# Altium integrated library NSC LDO.IntLib: 2590 symbols (part 59 of 64)
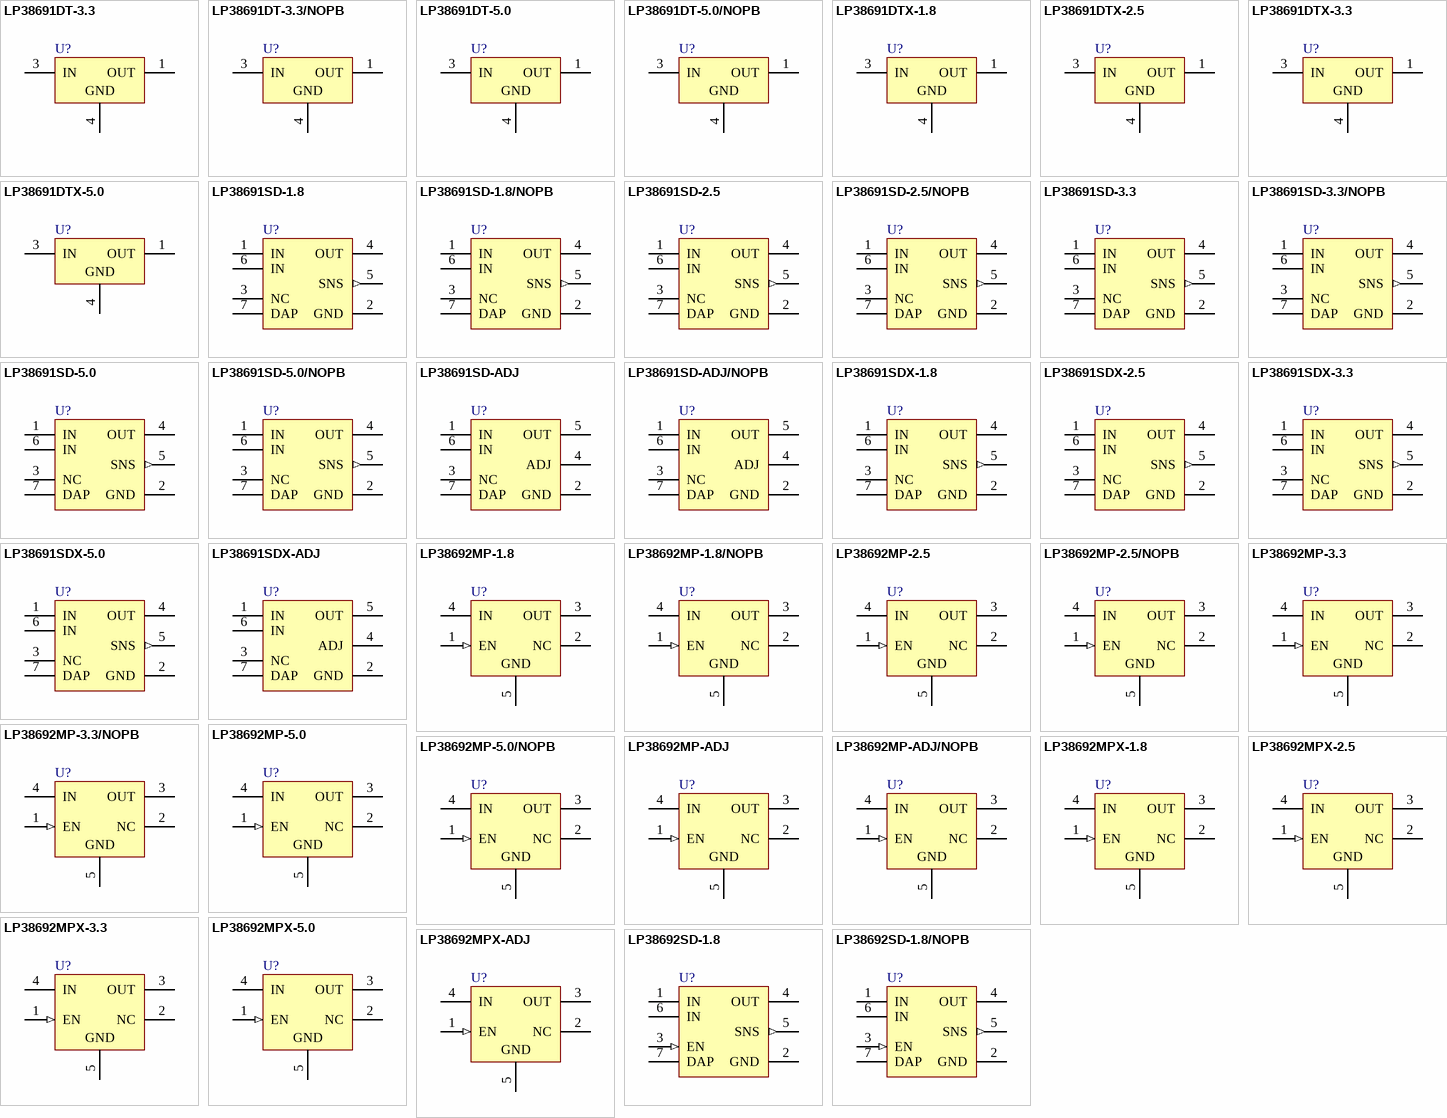
[diagram p123: symbols LP38691DT-3.3 to LP38692SD-1.8/NOPB]

## LP38691DT-5.0
designator U?
500mA Low Dropout CMOS Linear Regulators, 3-pin TO-252; PartNumber: LP38691DT-5.0; Manufacturer: National Semiconductor; PackageTopMarking: NSUZXYTT*LP38691*DT-5.0; PowerWise: Y; CompType: LDO IC; Published: 4-Dec-2008; DatasheetVersion: Sep-2005; PackageVersion: revD, Feb-2009; PackageReference: TD03B; Publisher: Altium Limited; PackageDescription: TO252, Molded, Jedec, 6.8 x 6.10 x 2.30mm Body, 3 Lead, 2.28mm Pitch, Surface Mount; Supplier 1: Farnell; Supplier Part Number 1: 1008052; RoHS: N; PinCount: 3; Code_JEDEC: TO-252-AA; ComponentLink1Description: LP38691 Datasheet; ComponentLink1URL: http://www.national.com/ds/LP/LP38691.pdf; ComponentLink2Description: LP38691 Web Page; ComponentLink2URL: http://www.national.com/pf/LP/LP38691.html; ComponentLink3Description: TD03B Package Page; ComponentLink3URL: http://www.national.com/packaging/folders/td03b.html
footprint TD03B_N (D-PAK, 4-Leads, Body 6.1x6.6mm, Pitch 2.29mm, Lead Span 9.7mm, IPC Medium Density)
footprint TD03B_L (D-PAK, 4-Leads, Body 6.1x6.6mm, Pitch 2.29mm, Lead Span 9.7mm, IPC High Density)
footprint TD03B_M (D-PAK, 4-Leads, Body 6.1x6.6mm, Pitch 2.29mm, Lead Span 9.7mm, IPC Low Density)
pins: 1 OUT (power), 3 IN (power), 4 GND (power)

## LP38691DT-5.0/NOPB
designator U?
500mA Low Dropout CMOS Linear Regulators Stable with Ceramic Output Capacitors, 3-pin TO-252, Pb-Free; PartNumber: LP38691DT-5.0/NOPB; Manufacturer: National Semiconductor; PackageTopMarking: NSUZXYTT*LP38691*DT-5.0; PowerWise: Y; CompType: LDO IC; Published: 1-Mar-2010; DatasheetVersion: Sep-2005; PackageVersion: revD, Feb-2009; PackageReference: TD03B; Publisher: Altium Limited; PackageDescription: TO252, Molded, Jedec, 6.8 x 6.10 x 2.30mm Body, 3 Lead, 2.28mm Pitch, Surface Mount; Supplier 1: Digi-Key; Supplier Part Number 1: LP38691DT-5.0-ND; Supplier 2: Farnell; Supplier Part Number 2: 1559635; RoHS: Y; PinCount: 3; Code_JEDEC: TO-252-AA; ComponentLink1Description: LP38691 Datasheet; ComponentLink1URL: http://www.national.com/ds/LP/LP38691.pdf; ComponentLink2Description: LP38691 Web Page; ComponentLink2URL: http://www.national.com/pf/LP/LP38691.html; ComponentLink3Description: TD03B Package Page; ComponentLink3URL: http://www.national.com/packaging/folders/td03b.html
footprint TD03B_N (D-PAK, 4-Leads, Body 6.1x6.6mm, Pitch 2.29mm, Lead Span 9.7mm, IPC Medium Density)
footprint TD03B_L (D-PAK, 4-Leads, Body 6.1x6.6mm, Pitch 2.29mm, Lead Span 9.7mm, IPC High Density)
footprint TD03B_M (D-PAK, 4-Leads, Body 6.1x6.6mm, Pitch 2.29mm, Lead Span 9.7mm, IPC Low Density)
pins: 1 OUT (power), 3 IN (power), 4 GND (power)

## LP38691DTX-1.8
designator U?
500mA Low Dropout CMOS Linear Regulators Stable with Ceramic Output Capacitors, 3-pin TO-252; PartNumber: LP38691DTX-1.8; Manufacturer: National Semiconductor; PackageTopMarking: NSUZXYTT*LP38691*DT-1.8; PowerWise: Y; CompType: LDO IC; Published: 1-Mar-2010; DatasheetVersion: Sep-2005; PackageVersion: revD, Feb-2009; PackageReference: TD03B; Publisher: Altium Limited; PackageDescription: TO252, Molded, Jedec, 6.8 x 6.10 x 2.30mm Body, 3 Lead, 2.28mm Pitch, Surface Mount; RoHS: N; PinCount: 3; Code_JEDEC: TO-252-AA; ComponentLink1Description: LP38691 Datasheet; ComponentLink1URL: http://www.national.com/ds/LP/LP38691.pdf; ComponentLink2Description: LP38691 Web Page; ComponentLink2URL: http://www.national.com/pf/LP/LP38691.html; ComponentLink3Description: TD03B Package Page; ComponentLink3URL: http://www.national.com/packaging/folders/td03b.html
footprint TD03B_N (D-PAK, 4-Leads, Body 6.1x6.6mm, Pitch 2.29mm, Lead Span 9.7mm, IPC Medium Density)
footprint TD03B_L (D-PAK, 4-Leads, Body 6.1x6.6mm, Pitch 2.29mm, Lead Span 9.7mm, IPC High Density)
footprint TD03B_M (D-PAK, 4-Leads, Body 6.1x6.6mm, Pitch 2.29mm, Lead Span 9.7mm, IPC Low Density)
pins: 1 OUT (power), 3 IN (power), 4 GND (power)

## LP38691DTX-2.5
designator U?
500mA Low Dropout CMOS Linear Regulators Stable with Ceramic Output Capacitors, 3-pin TO-252; PartNumber: LP38691DTX-2.5; Manufacturer: National Semiconductor; PackageTopMarking: NSUZXYTT*LP38691*DT-2.5; PowerWise: Y; CompType: LDO IC; Published: 1-Mar-2010; DatasheetVersion: Sep-2005; PackageVersion: revD, Feb-2009; PackageReference: TD03B; Publisher: Altium Limited; PackageDescription: TO252, Molded, Jedec, 6.8 x 6.10 x 2.30mm Body, 3 Lead, 2.28mm Pitch, Surface Mount; RoHS: N; PinCount: 3; Code_JEDEC: TO-252-AA; ComponentLink1Description: LP38691 Datasheet; ComponentLink1URL: http://www.national.com/ds/LP/LP38691.pdf; ComponentLink2Description: LP38691 Web Page; ComponentLink2URL: http://www.national.com/pf/LP/LP38691.html; ComponentLink3Description: TD03B Package Page; ComponentLink3URL: http://www.national.com/packaging/folders/td03b.html
footprint TD03B_N (D-PAK, 4-Leads, Body 6.1x6.6mm, Pitch 2.29mm, Lead Span 9.7mm, IPC Medium Density)
footprint TD03B_L (D-PAK, 4-Leads, Body 6.1x6.6mm, Pitch 2.29mm, Lead Span 9.7mm, IPC High Density)
footprint TD03B_M (D-PAK, 4-Leads, Body 6.1x6.6mm, Pitch 2.29mm, Lead Span 9.7mm, IPC Low Density)
pins: 1 OUT (power), 3 IN (power), 4 GND (power)

## LP38691DTX-3.3
designator U?
500mA Low Dropout CMOS Linear Regulators Stable with Ceramic Output Capacitors, 3-pin TO-252; PartNumber: LP38691DTX-3.3; Manufacturer: National Semiconductor; PackageTopMarking: NSUZXYTT*LP38691*DT-3.3; PowerWise: Y; CompType: LDO IC; Published: 1-Mar-2010; DatasheetVersion: Sep-2005; PackageVersion: revD, Feb-2009; PackageReference: TD03B; Publisher: Altium Limited; PackageDescription: TO252, Molded, Jedec, 6.8 x 6.10 x 2.30mm Body, 3 Lead, 2.28mm Pitch, Surface Mount; RoHS: N; PinCount: 3; Code_JEDEC: TO-252-AA; ComponentLink1Description: LP38691 Datasheet; ComponentLink1URL: http://www.national.com/ds/LP/LP38691.pdf; ComponentLink2Description: LP38691 Web Page; ComponentLink2URL: http://www.national.com/pf/LP/LP38691.html; ComponentLink3Description: TD03B Package Page; ComponentLink3URL: http://www.national.com/packaging/folders/td03b.html
footprint TD03B_N (D-PAK, 4-Leads, Body 6.1x6.6mm, Pitch 2.29mm, Lead Span 9.7mm, IPC Medium Density)
footprint TD03B_L (D-PAK, 4-Leads, Body 6.1x6.6mm, Pitch 2.29mm, Lead Span 9.7mm, IPC High Density)
footprint TD03B_M (D-PAK, 4-Leads, Body 6.1x6.6mm, Pitch 2.29mm, Lead Span 9.7mm, IPC Low Density)
pins: 1 OUT (power), 3 IN (power), 4 GND (power)

## LP38691DTX-5.0
designator U?
500mA Low Dropout CMOS Linear Regulators Stable with Ceramic Output Capacitors, 3-pin TO-252; PartNumber: LP38691DTX-5.0; Manufacturer: National Semiconductor; PackageTopMarking: NSUZXYTT*LP38691*DT-5.0; PowerWise: Y; CompType: LDO IC; Published: 1-Mar-2010; DatasheetVersion: Sep-2005; PackageVersion: revD, Feb-2009; PackageReference: TD03B; Publisher: Altium Limited; PackageDescription: TO252, Molded, Jedec, 6.8 x 6.10 x 2.30mm Body, 3 Lead, 2.28mm Pitch, Surface Mount; RoHS: N; PinCount: 3; Code_JEDEC: TO-252-AA; ComponentLink1Description: LP38691 Datasheet; ComponentLink1URL: http://www.national.com/ds/LP/LP38691.pdf; ComponentLink2Description: LP38691 Web Page; ComponentLink2URL: http://www.national.com/pf/LP/LP38691.html; ComponentLink3Description: TD03B Package Page; ComponentLink3URL: http://www.national.com/packaging/folders/td03b.html
footprint TD03B_N (D-PAK, 4-Leads, Body 6.1x6.6mm, Pitch 2.29mm, Lead Span 9.7mm, IPC Medium Density)
footprint TD03B_L (D-PAK, 4-Leads, Body 6.1x6.6mm, Pitch 2.29mm, Lead Span 9.7mm, IPC High Density)
footprint TD03B_M (D-PAK, 4-Leads, Body 6.1x6.6mm, Pitch 2.29mm, Lead Span 9.7mm, IPC Low Density)
pins: 1 OUT (power), 3 IN (power), 4 GND (power)

## LP38691SD-1.8
designator U?
500mA Low Dropout CMOS Linear Regulators, 6-pin LLP; PartNumber: LP38691SD-1.8; Manufacturer: National Semiconductor; PackageTopMarking: ZXYTT*L118B; PowerWise: Y; CompType: LDO IC; Published: 4-Dec-2008; DatasheetVersion: Sep-2005; PackageVersion: revA, Jul-2003; PackageReference: SDE06A; Publisher: Altium Limited; PackageDescription: LLP, Plastic, Dual, 3 x 3 x 0.8mm Body, 6 Lead, 0.95mm Pitch, No Pullback; RoHS: N; PinCount: 6; ComponentLink1Description: LP38691 Datasheet; ComponentLink1URL: http://www.national.com/ds/LP/LP38691.pdf; ComponentLink2Description: LP38691 Web Page; ComponentLink2URL: http://www.national.com/pf/LP/LP38691.html; ComponentLink3Description: SDE06A Package Page; ComponentLink3URL: http://www.national.com/packaging/folders/sde06a.html
footprint SDE06A_full (SON, 6-Leads, Body 3x3 mm, Pitch 0.95mm, Full Paste, NSC Recommended)
footprint SDE06A_quad (SON, 6-Leads, Body 3x3 mm, Pitch 0.95mm, Quad Paste, NSC Recommended)
pins: 1 IN (power), 2 GND (power), 3 NC, 4 OUT (power), 5 SNS (out), 6 IN (power), 7 DAP (power)

## LP38691SD-1.8/NOPB
designator U?
500mA Low Dropout CMOS Linear Regulators Stable with Ceramic Output Capacitors, 6-pin LLP, Pb-Free; PartNumber: LP38691SD-1.8/NOPB; Manufacturer: National Semiconductor; PackageTopMarking: ZXYTT*L118B; PowerWise: Y; CompType: LDO IC; Published: 1-Mar-2010; DatasheetVersion: Sep-2005; PackageVersion: revA, Jul-2003; PackageReference: SDE06A; Publisher: Altium Limited; PackageDescription: LLP, Plastic, Dual, 3 x 3 x 0.8mm Body, 6 Lead, 0.95mm Pitch, No Pullback; Supplier 1: Digi-Key; Supplier Part Number 1: LP38691SD-1.8TR-ND; Supplier 2: Digi-Key; Supplier Part Number 2: LP38691SD-1.8CT-ND; Supplier 3: Digi-Key; Supplier Part Number 3: LP38691SD-1.8DKR-ND; RoHS: Y; PinCount: 6; ComponentLink1Description: LP38691 Datasheet; ComponentLink1URL: http://www.national.com/ds/LP/LP38691.pdf; ComponentLink2Description: LP38691 Web Page; ComponentLink2URL: http://www.national.com/pf/LP/LP38691.html; ComponentLink3Description: SDE06A Package Page; ComponentLink3URL: http://www.national.com/packaging/folders/sde06a.html
footprint SDE06A_full (SON, 6-Leads, Body 3x3 mm, Pitch 0.95mm, Full Paste, NSC Recommended)
footprint SDE06A_quad (SON, 6-Leads, Body 3x3 mm, Pitch 0.95mm, Quad Paste, NSC Recommended)
pins: 1 IN (power), 2 GND (power), 3 NC, 4 OUT (power), 5 SNS (out), 6 IN (power), 7 DAP (power)

## LP38691SD-2.5
designator U?
500mA Low Dropout CMOS Linear Regulators, 6-pin LLP; PartNumber: LP38691SD-2.5; Manufacturer: National Semiconductor; PackageTopMarking: ZXYTT*L119B; PowerWise: Y; CompType: LDO IC; Published: 4-Dec-2008; DatasheetVersion: Sep-2005; PackageVersion: revA, Jul-2003; PackageReference: SDE06A; Publisher: Altium Limited; PackageDescription: LLP, Plastic, Dual, 3 x 3 x 0.8mm Body, 6 Lead, 0.95mm Pitch, No Pullback; RoHS: Y; PinCount: 6; ComponentLink1Description: LP38691 Datasheet; ComponentLink1URL: http://www.national.com/ds/LP/LP38691.pdf; ComponentLink2Description: LP38691 Web Page; ComponentLink2URL: http://www.national.com/pf/LP/LP38691.html; ComponentLink3Description: SDE06A Package Page; ComponentLink3URL: http://www.national.com/packaging/folders/sde06a.html
footprint SDE06A_full (SON, 6-Leads, Body 3x3 mm, Pitch 0.95mm, Full Paste, NSC Recommended)
footprint SDE06A_quad (SON, 6-Leads, Body 3x3 mm, Pitch 0.95mm, Quad Paste, NSC Recommended)
pins: 1 IN (power), 2 GND (power), 3 NC, 4 OUT (power), 5 SNS (out), 6 IN (power), 7 DAP (power)

## LP38691SD-2.5/NOPB
designator U?
500mA Low Dropout CMOS Linear Regulators Stable with Ceramic Output Capacitors, 6-pin LLP, Pb-Free; PartNumber: LP38691SD-2.5/NOPB; Manufacturer: National Semiconductor; PackageTopMarking: ZXYTT*L119B; PowerWise: Y; CompType: LDO IC; Published: 1-Mar-2010; DatasheetVersion: Sep-2005; PackageVersion: revA, Jul-2003; PackageReference: SDE06A; Publisher: Altium Limited; PackageDescription: LLP, Plastic, Dual, 3 x 3 x 0.8mm Body, 6 Lead, 0.95mm Pitch, No Pullback; Supplier 1: Digi-Key; Supplier Part Number 1: LP38691SD-2.5TR-ND; Supplier 2: Digi-Key; Supplier Part Number 2: LP38691SD-2.5CT-ND; Supplier 3: Digi-Key; Supplier Part Number 3: LP38691SD-2.5DKR-ND; RoHS: Y; PinCount: 6; ComponentLink1Description: LP38691 Datasheet; ComponentLink1URL: http://www.national.com/ds/LP/LP38691.pdf; ComponentLink2Description: LP38691 Web Page; ComponentLink2URL: http://www.national.com/pf/LP/LP38691.html; ComponentLink3Description: SDE06A Package Page; ComponentLink3URL: http://www.national.com/packaging/folders/sde06a.html
footprint SDE06A_full (SON, 6-Leads, Body 3x3 mm, Pitch 0.95mm, Full Paste, NSC Recommended)
footprint SDE06A_quad (SON, 6-Leads, Body 3x3 mm, Pitch 0.95mm, Quad Paste, NSC Recommended)
pins: 1 IN (power), 2 GND (power), 3 NC, 4 OUT (power), 5 SNS (out), 6 IN (power), 7 DAP (power)

## LP38691SD-3.3
designator U?
500mA Low Dropout CMOS Linear Regulators, 6-pin LLP; PartNumber: LP38691SD-3.3; Manufacturer: National Semiconductor; PackageTopMarking: ZXYTT*L120B; PowerWise: Y; CompType: LDO IC; Published: 4-Dec-2008; DatasheetVersion: Sep-2005; PackageVersion: revA, Jul-2003; PackageReference: SDE06A; Publisher: Altium Limited; PackageDescription: LLP, Plastic, Dual, 3 x 3 x 0.8mm Body, 6 Lead, 0.95mm Pitch, No Pullback; RoHS: N; PinCount: 6; ComponentLink1Description: LP38691 Datasheet; ComponentLink1URL: http://www.national.com/ds/LP/LP38691.pdf; ComponentLink2Description: LP38691 Web Page; ComponentLink2URL: http://www.national.com/pf/LP/LP38691.html; ComponentLink3Description: SDE06A Package Page; ComponentLink3URL: http://www.national.com/packaging/folders/sde06a.html
footprint SDE06A_full (SON, 6-Leads, Body 3x3 mm, Pitch 0.95mm, Full Paste, NSC Recommended)
footprint SDE06A_quad (SON, 6-Leads, Body 3x3 mm, Pitch 0.95mm, Quad Paste, NSC Recommended)
pins: 1 IN (power), 2 GND (power), 3 NC, 4 OUT (power), 5 SNS (out), 6 IN (power), 7 DAP (power)

## LP38691SD-3.3/NOPB
designator U?
500mA Low Dropout CMOS Linear Regulators Stable with Ceramic Output Capacitors, 6-pin LLP, Pb-Free; PartNumber: LP38691SD-3.3/NOPB; Manufacturer: National Semiconductor; PackageTopMarking: ZXYTT*L120B; PowerWise: Y; CompType: LDO IC; Published: 1-Mar-2010; DatasheetVersion: Sep-2005; PackageVersion: revA, Jul-2003; PackageReference: SDE06A; Publisher: Altium Limited; PackageDescription: LLP, Plastic, Dual, 3 x 3 x 0.8mm Body, 6 Lead, 0.95mm Pitch, No Pullback; Supplier 1: Digi-Key; Supplier Part Number 1: LP38691SD-3.3TR-ND; Supplier 2: Digi-Key; Supplier Part Number 2: LP38691SD-3.3CT-ND; Supplier 3: Digi-Key; Supplier Part Number 3: LP38691SD-3.3DKR-ND; Supplier 4: Farnell; Supplier Part Number 4: 1685714; RoHS: Y; PinCount: 6; ComponentLink1Description: LP38691 Datasheet; ComponentLink1URL: http://www.national.com/ds/LP/LP38691.pdf; ComponentLink2Description: LP38691 Web Page; ComponentLink2URL: http://www.national.com/pf/LP/LP38691.html; ComponentLink3Description: SDE06A Package Page; ComponentLink3URL: http://www.national.com/packaging/folders/sde06a.html
footprint SDE06A_full (SON, 6-Leads, Body 3x3 mm, Pitch 0.95mm, Full Paste, NSC Recommended)
footprint SDE06A_quad (SON, 6-Leads, Body 3x3 mm, Pitch 0.95mm, Quad Paste, NSC Recommended)
pins: 1 IN (power), 2 GND (power), 3 NC, 4 OUT (power), 5 SNS (out), 6 IN (power), 7 DAP (power)

## LP38691SD-5.0
designator U?
500mA Low Dropout CMOS Linear Regulators, 6-pin LLP; PartNumber: LP38691SD-5.0; Manufacturer: National Semiconductor; PackageTopMarking: ZXYTT*L121B; PowerWise: Y; CompType: LDO IC; Published: 4-Dec-2008; DatasheetVersion: Sep-2005; PackageVersion: revA, Jul-2003; PackageReference: SDE06A; Publisher: Altium Limited; PackageDescription: LLP, Plastic, Dual, 3 x 3 x 0.8mm Body, 6 Lead, 0.95mm Pitch, No Pullback; RoHS: N; PinCount: 6; ComponentLink1Description: LP38691 Datasheet; ComponentLink1URL: http://www.national.com/ds/LP/LP38691.pdf; ComponentLink2Description: LP38691 Web Page; ComponentLink2URL: http://www.national.com/pf/LP/LP38691.html; ComponentLink3Description: SDE06A Package Page; ComponentLink3URL: http://www.national.com/packaging/folders/sde06a.html
footprint SDE06A_full (SON, 6-Leads, Body 3x3 mm, Pitch 0.95mm, Full Paste, NSC Recommended)
footprint SDE06A_quad (SON, 6-Leads, Body 3x3 mm, Pitch 0.95mm, Quad Paste, NSC Recommended)
pins: 1 IN (power), 2 GND (power), 3 NC, 4 OUT (power), 5 SNS (out), 6 IN (power), 7 DAP (power)

## LP38691SD-5.0/NOPB
designator U?
500mA Low Dropout CMOS Linear Regulators Stable with Ceramic Output Capacitors, 6-pin LLP, Pb-Free; PartNumber: LP38691SD-5.0/NOPB; Manufacturer: National Semiconductor; PackageTopMarking: ZXYTT*L121B; PowerWise: Y; CompType: LDO IC; Published: 1-Mar-2010; DatasheetVersion: Sep-2005; PackageVersion: revA, Jul-2003; PackageReference: SDE06A; Publisher: Altium Limited; PackageDescription: LLP, Plastic, Dual, 3 x 3 x 0.8mm Body, 6 Lead, 0.95mm Pitch, No Pullback; Supplier 1: Digi-Key; Supplier Part Number 1: LP38691SD-5.0TR-ND; Supplier 2: Digi-Key; Supplier Part Number 2: LP38691SD-5.0CT-ND; Supplier 3: Digi-Key; Supplier Part Number 3: LP38691SD-5.0DKR-ND; Supplier 4: Farnell; Supplier Part Number 4: 1685716; RoHS: Y; PinCount: 6; ComponentLink1Description: LP38691 Datasheet; ComponentLink1URL: http://www.national.com/ds/LP/LP38691.pdf; ComponentLink2Description: LP38691 Web Page; ComponentLink2URL: http://www.national.com/pf/LP/LP38691.html; ComponentLink3Description: SDE06A Package Page; ComponentLink3URL: http://www.national.com/packaging/folders/sde06a.html
footprint SDE06A_full (SON, 6-Leads, Body 3x3 mm, Pitch 0.95mm, Full Paste, NSC Recommended)
footprint SDE06A_quad (SON, 6-Leads, Body 3x3 mm, Pitch 0.95mm, Quad Paste, NSC Recommended)
pins: 1 IN (power), 2 GND (power), 3 NC, 4 OUT (power), 5 SNS (out), 6 IN (power), 7 DAP (power)

## LP38691SD-ADJ
designator U?
500mA Low Dropout CMOS Linear Regulators, 6-pin LLP; PartNumber: LP38691SD-ADJ; Manufacturer: National Semiconductor; PackageTopMarking: ZXYTT*L117B; PowerWise: Y; CompType: LDO IC; Published: 4-Dec-2008; DatasheetVersion: Sep-2005; PackageVersion: revA, Jul-2003; PackageReference: SDE06A; Publisher: Altium Limited; PackageDescription: LLP, Plastic, Dual, 3 x 3 x 0.8mm Body, 6 Lead, 0.95mm Pitch, No Pullback; Supplier 1: Farnell; Supplier Part Number 1: 1312620; RoHS: N; PinCount: 6; ComponentLink1Description: LP38691 Datasheet; ComponentLink1URL: http://www.national.com/ds/LP/LP38691-ADJ.pdf; ComponentLink2Description: LP38691 Web Page; ComponentLink2URL: http://www.national.com/pf/LP/LP38691.html; ComponentLink3Description: SDE06A Package Page; ComponentLink3URL: http://www.national.com/packaging/folders/sde06a.html
footprint SDE06A_full (SON, 6-Leads, Body 3x3 mm, Pitch 0.95mm, Full Paste, NSC Recommended)
footprint SDE06A_quad (SON, 6-Leads, Body 3x3 mm, Pitch 0.95mm, Quad Paste, NSC Recommended)
pins: 1 IN (power), 2 GND (power), 3 NC, 4 ADJ, 5 OUT (power), 6 IN (power), 7 DAP (power)

## LP38691SD-ADJ/NOPB
designator U?
500mA Low Dropout CMOS Linear Regulators with Adjustable Output Stable with Ceramic Output Capacitors, 6-pin LLP, Pb-Free; PartNumber: LP38691SD-ADJ/NOPB; Manufacturer: National Semiconductor; PackageTopMarking: ZXYTT*L117B; PowerWise: Y; CompType: LDO IC; Published: 1-Mar-2010; DatasheetVersion: Sep-2005; PackageVersion: revA, Jul-2003; PackageReference: SDE06A; Publisher: Altium Limited; PackageDescription: LLP, Plastic, Dual, 3 x 3 x 0.8mm Body, 6 Lead, 0.95mm Pitch, No Pullback; Supplier 1: Digi-Key; Supplier Part Number 1: LP38691SD-ADJTR-ND; Supplier 2: Digi-Key; Supplier Part Number 2: LP38691SD-ADJCT-ND; Supplier 3: Digi-Key; Supplier Part Number 3: LP38691SD-ADJDKR-ND; Supplier 4: Farnell; Supplier Part Number 4: 1559636; RoHS: Y; PinCount: 6; ComponentLink1Description: LP38691 Datasheet; ComponentLink1URL: http://www.national.com/ds/LP/LP38691-ADJ.pdf; ComponentLink2Description: LP38691 Web Page; ComponentLink2URL: http://www.national.com/pf/LP/LP38691.html; ComponentLink3Description: SDE06A Package Page; ComponentLink3URL: http://www.national.com/packaging/folders/sde06a.html
footprint SDE06A_full (SON, 6-Leads, Body 3x3 mm, Pitch 0.95mm, Full Paste, NSC Recommended)
footprint SDE06A_quad (SON, 6-Leads, Body 3x3 mm, Pitch 0.95mm, Quad Paste, NSC Recommended)
pins: 1 IN (power), 2 GND (power), 3 NC, 4 ADJ, 5 OUT (power), 6 IN (power), 7 DAP (power)

## LP38691SDX-1.8
designator U?
500mA Low Dropout CMOS Linear Regulators Stable with Ceramic Output Capacitors, 6-pin LLP; PartNumber: LP38691SDX-1.8; Manufacturer: National Semiconductor; PackageTopMarking: ZXYTT*L118B; PowerWise: Y; CompType: LDO IC; Published: 1-Mar-2010; DatasheetVersion: Sep-2005; PackageVersion: revA, Jul-2003; PackageReference: SDE06A; Publisher: Altium Limited; PackageDescription: LLP, Plastic, Dual, 3 x 3 x 0.8mm Body, 6 Lead, 0.95mm Pitch, No Pullback; RoHS: N; PinCount: 6; ComponentLink1Description: LP38691 Datasheet; ComponentLink1URL: http://www.national.com/ds/LP/LP38691.pdf; ComponentLink2Description: LP38691 Web Page; ComponentLink2URL: http://www.national.com/pf/LP/LP38691.html; ComponentLink3Description: SDE06A Package Page; ComponentLink3URL: http://www.national.com/packaging/folders/sde06a.html
footprint SDE06A_full (SON, 6-Leads, Body 3x3 mm, Pitch 0.95mm, Full Paste, NSC Recommended)
footprint SDE06A_quad (SON, 6-Leads, Body 3x3 mm, Pitch 0.95mm, Quad Paste, NSC Recommended)
pins: 1 IN (power), 2 GND (power), 3 NC, 4 OUT (power), 5 SNS (out), 6 IN (power), 7 DAP (power)

## LP38691SDX-2.5
designator U?
500mA Low Dropout CMOS Linear Regulators Stable with Ceramic Output Capacitors, 6-pin LLP; PartNumber: LP38691SDX-2.5; Manufacturer: National Semiconductor; PackageTopMarking: ZXYTT*L119B; PowerWise: Y; CompType: LDO IC; Published: 1-Mar-2010; DatasheetVersion: Sep-2005; PackageVersion: revA, Jul-2003; PackageReference: SDE06A; Publisher: Altium Limited; PackageDescription: LLP, Plastic, Dual, 3 x 3 x 0.8mm Body, 6 Lead, 0.95mm Pitch, No Pullback; RoHS: N; PinCount: 6; ComponentLink1Description: LP38691 Datasheet; ComponentLink1URL: http://www.national.com/ds/LP/LP38691.pdf; ComponentLink2Description: LP38691 Web Page; ComponentLink2URL: http://www.national.com/pf/LP/LP38691.html; ComponentLink3Description: SDE06A Package Page; ComponentLink3URL: http://www.national.com/packaging/folders/sde06a.html
footprint SDE06A_full (SON, 6-Leads, Body 3x3 mm, Pitch 0.95mm, Full Paste, NSC Recommended)
footprint SDE06A_quad (SON, 6-Leads, Body 3x3 mm, Pitch 0.95mm, Quad Paste, NSC Recommended)
pins: 1 IN (power), 2 GND (power), 3 NC, 4 OUT (power), 5 SNS (out), 6 IN (power), 7 DAP (power)

## LP38691SDX-3.3
designator U?
500mA Low Dropout CMOS Linear Regulators Stable with Ceramic Output Capacitors, 6-pin LLP; PartNumber: LP38691SDX-3.3; Manufacturer: National Semiconductor; PackageTopMarking: ZXYTT*L120B; PowerWise: Y; CompType: LDO IC; Published: 1-Mar-2010; DatasheetVersion: Sep-2005; PackageVersion: revA, Jul-2003; PackageReference: SDE06A; Publisher: Altium Limited; PackageDescription: LLP, Plastic, Dual, 3 x 3 x 0.8mm Body, 6 Lead, 0.95mm Pitch, No Pullback; RoHS: N; PinCount: 6; ComponentLink1Description: LP38691 Datasheet; ComponentLink1URL: http://www.national.com/ds/LP/LP38691.pdf; ComponentLink2Description: LP38691 Web Page; ComponentLink2URL: http://www.national.com/pf/LP/LP38691.html; ComponentLink3Description: SDE06A Package Page; ComponentLink3URL: http://www.national.com/packaging/folders/sde06a.html
footprint SDE06A_full (SON, 6-Leads, Body 3x3 mm, Pitch 0.95mm, Full Paste, NSC Recommended)
footprint SDE06A_quad (SON, 6-Leads, Body 3x3 mm, Pitch 0.95mm, Quad Paste, NSC Recommended)
pins: 1 IN (power), 2 GND (power), 3 NC, 4 OUT (power), 5 SNS (out), 6 IN (power), 7 DAP (power)

## LP38691SDX-5.0
designator U?
500mA Low Dropout CMOS Linear Regulators Stable with Ceramic Output Capacitors, 6-pin LLP; PartNumber: LP38691SDX-5.0; Manufacturer: National Semiconductor; PackageTopMarking: ZXYTT*L121B; PowerWise: Y; CompType: LDO IC; Published: 1-Mar-2010; DatasheetVersion: Sep-2005; PackageVersion: revA, Jul-2003; PackageReference: SDE06A; Publisher: Altium Limited; PackageDescription: LLP, Plastic, Dual, 3 x 3 x 0.8mm Body, 6 Lead, 0.95mm Pitch, No Pullback; RoHS: N; PinCount: 6; ComponentLink1Description: LP38691 Datasheet; ComponentLink1URL: http://www.national.com/ds/LP/LP38691.pdf; ComponentLink2Description: LP38691 Web Page; ComponentLink2URL: http://www.national.com/pf/LP/LP38691.html; ComponentLink3Description: SDE06A Package Page; ComponentLink3URL: http://www.national.com/packaging/folders/sde06a.html
footprint SDE06A_full (SON, 6-Leads, Body 3x3 mm, Pitch 0.95mm, Full Paste, NSC Recommended)
footprint SDE06A_quad (SON, 6-Leads, Body 3x3 mm, Pitch 0.95mm, Quad Paste, NSC Recommended)
pins: 1 IN (power), 2 GND (power), 3 NC, 4 OUT (power), 5 SNS (out), 6 IN (power), 7 DAP (power)

## LP38691SDX-ADJ
designator U?
500mA Low Dropout CMOS Linear Regulators with Adjustable Output Stable with Ceramic Output Capacitors, 6-pin LLP; PartNumber: LP38691SDX-ADJ; Manufacturer: National Semiconductor; PackageTopMarking: ZXYTT*L117B; PowerWise: Y; CompType: LDO IC; Published: 1-Mar-2010; DatasheetVersion: Sep-2005; PackageVersion: revA, Jul-2003; PackageReference: SDE06A; Publisher: Altium Limited; PackageDescription: LLP, Plastic, Dual, 3 x 3 x 0.8mm Body, 6 Lead, 0.95mm Pitch, No Pullback; RoHS: N; PinCount: 6; ComponentLink1Description: LP38691 Datasheet; ComponentLink1URL: http://www.national.com/ds/LP/LP38691-ADJ.pdf; ComponentLink2Description: LP38691 Web Page; ComponentLink2URL: http://www.national.com/pf/LP/LP38691.html; ComponentLink3Description: SDE06A Package Page; ComponentLink3URL: http://www.national.com/packaging/folders/sde06a.html
footprint SDE06A_full (SON, 6-Leads, Body 3x3 mm, Pitch 0.95mm, Full Paste, NSC Recommended)
footprint SDE06A_quad (SON, 6-Leads, Body 3x3 mm, Pitch 0.95mm, Quad Paste, NSC Recommended)
pins: 1 IN (power), 2 GND (power), 3 NC, 4 ADJ, 5 OUT (power), 6 IN (power), 7 DAP (power)

## LP38692MP-1.8
designator U?
1A Low Dropout CMOS Linear Regulators, 5-pin SOT-223; PartNumber: LP38692MP-1.8; Manufacturer: National Semiconductor; PackageTopMarking: XYTT*LJPB; PowerWise: Y; CompType: LDO IC; Published: 4-Dec-2008; DatasheetVersion: May-2005; PackageVersion: revA, Jan-2000; PackageReference: MP05A; Publisher: Altium Limited; PackageDescription: Moldec SOT-223, 6.50 x 3.56 x 1.6mm Body, 5 Lead, 1.5mm Pitch; Supplier 1: Farnell; Supplier Part Number 1: 1008053; RoHS: N; PinCount: 5; Code_JEDEC: TO-261-AB; Code_IPC: SOT223-5; ComponentLink1Description: LP38692 Datasheet; ComponentLink1URL: http://www.national.com/ds/LP/LP38692.pdf; ComponentLink2Description: LP38692 Web Page; ComponentLink2URL: http://www.national.com/pf/LP/LP38692.html; ComponentLink3Description: MP05A Package Page; ComponentLink3URL: http://www.national.com/packaging/folders/mp05a.html
footprint MP05A_N (SOT223, 5-Leads, Body 6.5x3.5mm, Pitch 1.5mm, Lead Span 7mm, IPC Medium Density)
footprint MP05A_L (SOT223, 5-Leads, Body 6.5x3.5mm, Pitch 1.5mm, Lead Span 7mm, IPC High Density)
footprint MP05A_M (SOT223, 5-Leads, Body 6.5x3.5mm, Pitch 1.5mm, Lead Span 7mm, IPC Low Density)
pins: 1 EN (in), 2 NC, 3 OUT (power), 4 IN (power), 5 GND (power)

## LP38692MP-1.8/NOPB
designator U?
1A Low Dropout CMOS Linear Regulators, Stable with Ceramic Output Capacitors, 5-pin SOT-223, Pb-Free; PartNumber: LP38692MP-1.8/NOPB; Manufacturer: National Semiconductor; PackageTopMarking: XYTT*LJPB; PowerWise: Y; CompType: LDO IC; Published: 1-Mar-2010; DatasheetVersion: May-2005; PackageVersion: revA, Jan-2000; PackageReference: MP05A; Publisher: Altium Limited; PackageDescription: Moldec SOT-223, 6.50 x 3.56 x 1.6mm Body, 5 Lead, 1.5mm Pitch; Supplier 1: Digi-Key; Supplier Part Number 1: LP38692MP-1.8TR-ND; Supplier 2: Digi-Key; Supplier Part Number 2: LP38692MP-1.8CT-ND; Supplier 3: Digi-Key; Supplier Part Number 3: LP38692MP-1.8DKR-ND; Supplier 4: Farnell; Supplier Part Number 4: 1559639; RoHS: Y; PinCount: 5; Code_JEDEC: TO-261-AB; Code_IPC: SOT223-5; ComponentLink1Description: LP38692 Datasheet; ComponentLink1URL: http://www.national.com/ds/LP/LP38692.pdf; ComponentLink2Description: LP38692 Web Page; ComponentLink2URL: http://www.national.com/pf/LP/LP38692.html; ComponentLink3Description: MP05A Package Page; ComponentLink3URL: http://www.national.com/packaging/folders/mp05a.html
footprint MP05A_N (SOT223, 5-Leads, Body 6.5x3.5mm, Pitch 1.5mm, Lead Span 7mm, IPC Medium Density)
footprint MP05A_L (SOT223, 5-Leads, Body 6.5x3.5mm, Pitch 1.5mm, Lead Span 7mm, IPC High Density)
footprint MP05A_M (SOT223, 5-Leads, Body 6.5x3.5mm, Pitch 1.5mm, Lead Span 7mm, IPC Low Density)
pins: 1 EN (in), 2 NC, 3 OUT (power), 4 IN (power), 5 GND (power)

## LP38692MP-2.5
designator U?
1A Low Dropout CMOS Linear Regulators, 5-pin SOT-223; PartNumber: LP38692MP-2.5; Manufacturer: National Semiconductor; PackageTopMarking: XYTT*LJRB; PowerWise: Y; CompType: LDO IC; Published: 4-Dec-2008; DatasheetVersion: May-2005; PackageVersion: revA, Jan-2000; PackageReference: MP05A; Publisher: Altium Limited; PackageDescription: Moldec SOT-223, 6.50 x 3.56 x 1.6mm Body, 5 Lead, 1.5mm Pitch; Supplier 1: Farnell; Supplier Part Number 1: 1008054; RoHS: N; PinCount: 5; Code_JEDEC: TO-261-AB; Code_IPC: SOT223-5; ComponentLink1Description: LP38692 Datasheet; ComponentLink1URL: http://www.national.com/ds/LP/LP38692.pdf; ComponentLink2Description: LP38692 Web Page; ComponentLink2URL: http://www.national.com/pf/LP/LP38692.html; ComponentLink3Description: MP05A Package Page; ComponentLink3URL: http://www.national.com/packaging/folders/mp05a.html
footprint MP05A_N (SOT223, 5-Leads, Body 6.5x3.5mm, Pitch 1.5mm, Lead Span 7mm, IPC Medium Density)
footprint MP05A_L (SOT223, 5-Leads, Body 6.5x3.5mm, Pitch 1.5mm, Lead Span 7mm, IPC High Density)
footprint MP05A_M (SOT223, 5-Leads, Body 6.5x3.5mm, Pitch 1.5mm, Lead Span 7mm, IPC Low Density)
pins: 1 EN (in), 2 NC, 3 OUT (power), 4 IN (power), 5 GND (power)

## LP38692MP-2.5/NOPB
designator U?
1A Low Dropout CMOS Linear Regulators, Stable with Ceramic Output Capacitors, 5-pin SOT-223, Pb-Free; PartNumber: LP38692MP-2.5/NOPB; Manufacturer: National Semiconductor; PackageTopMarking: XYTT*LJRB; PowerWise: Y; CompType: LDO IC; Published: 1-Mar-2010; DatasheetVersion: May-2005; PackageVersion: revA, Jan-2000; PackageReference: MP05A; Publisher: Altium Limited; PackageDescription: Moldec SOT-223, 6.50 x 3.56 x 1.6mm Body, 5 Lead, 1.5mm Pitch; Supplier 1: Digi-Key; Supplier Part Number 1: LP38692MP-2.5TR-ND; Supplier 2: Digi-Key; Supplier Part Number 2: LP38692MP-2.5CT-ND; Supplier 3: Digi-Key; Supplier Part Number 3: LP38692MP-2.5DKR-ND; Supplier 4: Farnell; Supplier Part Number 4: 1559640; RoHS: Y; PinCount: 5; Code_JEDEC: TO-261-AB; Code_IPC: SOT223-5; ComponentLink1Description: LP38692 Datasheet; ComponentLink1URL: http://www.national.com/ds/LP/LP38692.pdf; ComponentLink2Description: LP38692 Web Page; ComponentLink2URL: http://www.national.com/pf/LP/LP38692.html; ComponentLink3Description: MP05A Package Page; ComponentLink3URL: http://www.national.com/packaging/folders/mp05a.html
footprint MP05A_N (SOT223, 5-Leads, Body 6.5x3.5mm, Pitch 1.5mm, Lead Span 7mm, IPC Medium Density)
footprint MP05A_L (SOT223, 5-Leads, Body 6.5x3.5mm, Pitch 1.5mm, Lead Span 7mm, IPC High Density)
footprint MP05A_M (SOT223, 5-Leads, Body 6.5x3.5mm, Pitch 1.5mm, Lead Span 7mm, IPC Low Density)
pins: 1 EN (in), 2 NC, 3 OUT (power), 4 IN (power), 5 GND (power)

## LP38692MP-3.3
designator U?
1A Low Dropout CMOS Linear Regulators, 5-pin SOT-223; PartNumber: LP38692MP-3.3; Manufacturer: National Semiconductor; PackageTopMarking: XYTT*LJSB; PowerWise: Y; CompType: LDO IC; Published: 4-Dec-2008; DatasheetVersion: May-2005; PackageVersion: revA, Jan-2000; PackageReference: MP05A; Publisher: Altium Limited; PackageDescription: Moldec SOT-223, 6.50 x 3.56 x 1.6mm Body, 5 Lead, 1.5mm Pitch; Supplier 1: Farnell; Supplier Part Number 1: 1008056; RoHS: N; PinCount: 5; Code_JEDEC: TO-261-AB; Code_IPC: SOT223-5; ComponentLink1Description: LP38692 Datasheet; ComponentLink1URL: http://www.national.com/ds/LP/LP38692.pdf; ComponentLink2Description: LP38692 Web Page; ComponentLink2URL: http://www.national.com/pf/LP/LP38692.html; ComponentLink3Description: MP05A Package Page; ComponentLink3URL: http://www.national.com/packaging/folders/mp05a.html
footprint MP05A_N (SOT223, 5-Leads, Body 6.5x3.5mm, Pitch 1.5mm, Lead Span 7mm, IPC Medium Density)
footprint MP05A_L (SOT223, 5-Leads, Body 6.5x3.5mm, Pitch 1.5mm, Lead Span 7mm, IPC High Density)
footprint MP05A_M (SOT223, 5-Leads, Body 6.5x3.5mm, Pitch 1.5mm, Lead Span 7mm, IPC Low Density)
pins: 1 EN (in), 2 NC, 3 OUT (power), 4 IN (power), 5 GND (power)

## LP38692MP-3.3/NOPB
designator U?
1A Low Dropout CMOS Linear Regulators, Stable with Ceramic Output Capacitors, 5-pin SOT-223, Pb-Free; PartNumber: LP38692MP-3.3/NOPB; Manufacturer: National Semiconductor; PackageTopMarking: XYTT*LJSB; PowerWise: Y; CompType: LDO IC; Published: 1-Mar-2010; DatasheetVersion: May-2005; PackageVersion: revA, Jan-2000; PackageReference: MP05A; Publisher: Altium Limited; PackageDescription: Moldec SOT-223, 6.50 x 3.56 x 1.6mm Body, 5 Lead, 1.5mm Pitch; Supplier 1: Digi-Key; Supplier Part Number 1: LP38692MP-3.3TR-ND; Supplier 2: Digi-Key; Supplier Part Number 2: LP38692MP-3.3CT-ND; Supplier 3: Digi-Key; Supplier Part Number 3: LP38692MP-3.3DKR-ND; Supplier 4: Farnell; Supplier Part Number 4: 1559641; RoHS: Y; PinCount: 5; Code_JEDEC: TO-261-AB; Code_IPC: SOT223-5; ComponentLink1Description: LP38692 Datasheet; ComponentLink1URL: http://www.national.com/ds/LP/LP38692.pdf; ComponentLink2Description: LP38692 Web Page; ComponentLink2URL: http://www.national.com/pf/LP/LP38692.html; ComponentLink3Description: MP05A Package Page; ComponentLink3URL: http://www.national.com/packaging/folders/mp05a.html
footprint MP05A_N (SOT223, 5-Leads, Body 6.5x3.5mm, Pitch 1.5mm, Lead Span 7mm, IPC Medium Density)
footprint MP05A_L (SOT223, 5-Leads, Body 6.5x3.5mm, Pitch 1.5mm, Lead Span 7mm, IPC High Density)
footprint MP05A_M (SOT223, 5-Leads, Body 6.5x3.5mm, Pitch 1.5mm, Lead Span 7mm, IPC Low Density)
pins: 1 EN (in), 2 NC, 3 OUT (power), 4 IN (power), 5 GND (power)

## LP38692MP-5.0
designator U?
1A Low Dropout CMOS Linear Regulators, 5-pin SOT-223; PartNumber: LP38692MP-5.0; Manufacturer: National Semiconductor; PackageTopMarking: XYTT*LJTB; PowerWise: Y; CompType: LDO IC; Published: 4-Dec-2008; DatasheetVersion: May-2005; PackageVersion: revA, Jan-2000; PackageReference: MP05A; Publisher: Altium Limited; PackageDescription: Moldec SOT-223, 6.50 x 3.56 x 1.6mm Body, 5 Lead, 1.5mm Pitch; Supplier 1: Digi-Key; Supplier Part Number 1: LP38692MP-5.0CT-ND; Supplier 2: Digi-Key; Supplier Part Number 2: LP38692MP-5.0DKR-ND; Supplier 3: Farnell; Supplier Part Number 3: 1008057; RoHS: N; PinCount: 5; Code_JEDEC: TO-261-AB; Code_IPC: SOT223-5; ComponentLink1Description: LP38692 Datasheet; ComponentLink1URL: http://www.national.com/ds/LP/LP38692.pdf; ComponentLink2Description: LP38692 Web Page; ComponentLink2URL: http://www.national.com/pf/LP/LP38692.html; ComponentLink3Description: MP05A Package Page; ComponentLink3URL: http://www.national.com/packaging/folders/mp05a.html
footprint MP05A_N (SOT223, 5-Leads, Body 6.5x3.5mm, Pitch 1.5mm, Lead Span 7mm, IPC Medium Density)
footprint MP05A_L (SOT223, 5-Leads, Body 6.5x3.5mm, Pitch 1.5mm, Lead Span 7mm, IPC High Density)
footprint MP05A_M (SOT223, 5-Leads, Body 6.5x3.5mm, Pitch 1.5mm, Lead Span 7mm, IPC Low Density)
pins: 1 EN (in), 2 NC, 3 OUT (power), 4 IN (power), 5 GND (power)

## LP38692MP-5.0/NOPB
designator U?
1A Low Dropout CMOS Linear Regulators, Stable with Ceramic Output Capacitors, 5-pin SOT-223, Pb-Free; PartNumber: LP38692MP-5.0/NOPB; Manufacturer: National Semiconductor; PackageTopMarking: XYTT*LJTB; PowerWise: Y; CompType: LDO IC; Published: 1-Mar-2010; DatasheetVersion: May-2005; PackageVersion: revA, Jan-2000; PackageReference: MP05A; Publisher: Altium Limited; PackageDescription: Moldec SOT-223, 6.50 x 3.56 x 1.6mm Body, 5 Lead, 1.5mm Pitch; Supplier 1: Digi-Key; Supplier Part Number 1: LP38692MP-5.0TR-ND; Supplier 2: Farnell; Supplier Part Number 2: 1559642; RoHS: Y; PinCount: 5; Code_JEDEC: TO-261-AB; Code_IPC: SOT223-5; ComponentLink1Description: LP38692 Datasheet; ComponentLink1URL: http://www.national.com/ds/LP/LP38692.pdf; ComponentLink2Description: LP38692 Web Page; ComponentLink2URL: http://www.national.com/pf/LP/LP38692.html; ComponentLink3Description: MP05A Package Page; ComponentLink3URL: http://www.national.com/packaging/folders/mp05a.html
footprint MP05A_N (SOT223, 5-Leads, Body 6.5x3.5mm, Pitch 1.5mm, Lead Span 7mm, IPC Medium Density)
footprint MP05A_L (SOT223, 5-Leads, Body 6.5x3.5mm, Pitch 1.5mm, Lead Span 7mm, IPC High Density)
footprint MP05A_M (SOT223, 5-Leads, Body 6.5x3.5mm, Pitch 1.5mm, Lead Span 7mm, IPC Low Density)
pins: 1 EN (in), 2 NC, 3 OUT (power), 4 IN (power), 5 GND (power)

## LP38692MP-ADJ
designator U?
1A Low Dropout CMOS Linear Regulators, 5-pin SOT-223; PartNumber: LP38692MP-ADJ; Manufacturer: National Semiconductor; PackageTopMarking: XYTT*LJNB; PowerWise: Y; CompType: LDO IC; Published: 4-Dec-2008; DatasheetVersion: Jan-2005; PackageVersion: revA, Jan-2000; PackageReference: MP05A; Publisher: Altium Limited; PackageDescription: Moldec SOT-223, 6.50 x 3.56 x 1.6mm Body, 5 Lead, 1.5mm Pitch; Supplier 1: Farnell; Supplier Part Number 1: 1008058; RoHS: N; PinCount: 5; Code_JEDEC: TO-261-AB; Code_IPC: SOT223-5; ComponentLink1Description: LP38692 Datasheet; ComponentLink1URL: http://www.national.com/ds/LP/LP38692-ADJ.pdf; ComponentLink2Description: LP38692 Web Page; ComponentLink2URL: http://www.national.com/pf/LP/LP38692.html; ComponentLink3Description: MP05A Package Page; ComponentLink3URL: http://www.national.com/packaging/folders/mp05a.html
footprint MP05A_N (SOT223, 5-Leads, Body 6.5x3.5mm, Pitch 1.5mm, Lead Span 7mm, IPC Medium Density)
footprint MP05A_L (SOT223, 5-Leads, Body 6.5x3.5mm, Pitch 1.5mm, Lead Span 7mm, IPC High Density)
footprint MP05A_M (SOT223, 5-Leads, Body 6.5x3.5mm, Pitch 1.5mm, Lead Span 7mm, IPC Low Density)
pins: 1 EN (in), 2 NC, 3 OUT (power), 4 IN (power), 5 GND (power)

## LP38692MP-ADJ/NOPB
designator U?
1A Low Dropout CMOS Linear Regulators with Adjustable Output Stable with Ceramic Output Capacitors, 5-pin SOT-223, Pb-Free; PartNumber: LP38692MP-ADJ/NOPB; Manufacturer: National Semiconductor; PackageTopMarking: XYTT*LJNB; PowerWise: Y; CompType: LDO IC; Published: 1-Mar-2010; DatasheetVersion: Jan-2005; PackageVersion: revA, Jan-2000; PackageReference: MP05A; Publisher: Altium Limited; PackageDescription: Moldec SOT-223, 6.50 x 3.56 x 1.6mm Body, 5 Lead, 1.5mm Pitch; Supplier 1: Digi-Key; Supplier Part Number 1: LP38692MP-ADJTR-ND; Supplier 2: Digi-Key; Supplier Part Number 2: LP38692MP-ADJCT-ND; Supplier 3: Digi-Key; Supplier Part Number 3: LP38692MP-ADJDKR-ND; Supplier 4: Farnell; Supplier Part Number 4: 1496843; RoHS: Y; PinCount: 5; Code_JEDEC: TO-261-AB; Code_IPC: SOT223-5; ComponentLink1Description: LP38692 Datasheet; ComponentLink1URL: http://www.national.com/ds/LP/LP38692-ADJ.pdf; ComponentLink2Description: LP38692 Web Page; ComponentLink2URL: http://www.national.com/pf/LP/LP38692.html; ComponentLink3Description: MP05A Package Page; ComponentLink3URL: http://www.national.com/packaging/folders/mp05a.html
footprint MP05A_N (SOT223, 5-Leads, Body 6.5x3.5mm, Pitch 1.5mm, Lead Span 7mm, IPC Medium Density)
footprint MP05A_L (SOT223, 5-Leads, Body 6.5x3.5mm, Pitch 1.5mm, Lead Span 7mm, IPC High Density)
footprint MP05A_M (SOT223, 5-Leads, Body 6.5x3.5mm, Pitch 1.5mm, Lead Span 7mm, IPC Low Density)
pins: 1 EN (in), 2 NC, 3 OUT (power), 4 IN (power), 5 GND (power)

## LP38692MPX-1.8
designator U?
1A Low Dropout CMOS Linear Regulators, Stable with Ceramic Output Capacitors, 5-pin SOT-223; PartNumber: LP38692MPX-1.8; Manufacturer: National Semiconductor; PackageTopMarking: XYTT*LJPB; PowerWise: Y; CompType: LDO IC; Published: 1-Mar-2010; DatasheetVersion: May-2005; PackageVersion: revA, Jan-2000; PackageReference: MP05A; Publisher: Altium Limited; PackageDescription: Moldec SOT-223, 6.50 x 3.56 x 1.6mm Body, 5 Lead, 1.5mm Pitch; RoHS: N; PinCount: 5; Code_JEDEC: TO-261-AB; Code_IPC: SOT223-5; ComponentLink1Description: LP38692 Datasheet; ComponentLink1URL: http://www.national.com/ds/LP/LP38692.pdf; ComponentLink2Description: LP38692 Web Page; ComponentLink2URL: http://www.national.com/pf/LP/LP38692.html; ComponentLink3Description: MP05A Package Page; ComponentLink3URL: http://www.national.com/packaging/folders/mp05a.html
footprint MP05A_N (SOT223, 5-Leads, Body 6.5x3.5mm, Pitch 1.5mm, Lead Span 7mm, IPC Medium Density)
footprint MP05A_L (SOT223, 5-Leads, Body 6.5x3.5mm, Pitch 1.5mm, Lead Span 7mm, IPC High Density)
footprint MP05A_M (SOT223, 5-Leads, Body 6.5x3.5mm, Pitch 1.5mm, Lead Span 7mm, IPC Low Density)
pins: 1 EN (in), 2 NC, 3 OUT (power), 4 IN (power), 5 GND (power)

## LP38692MPX-2.5
designator U?
1A Low Dropout CMOS Linear Regulators, Stable with Ceramic Output Capacitors, 5-pin SOT-223; PartNumber: LP38692MPX-2.5; Manufacturer: National Semiconductor; PackageTopMarking: XYTT*LJRB; PowerWise: Y; CompType: LDO IC; Published: 1-Mar-2010; DatasheetVersion: May-2005; PackageVersion: revA, Jan-2000; PackageReference: MP05A; Publisher: Altium Limited; PackageDescription: Moldec SOT-223, 6.50 x 3.56 x 1.6mm Body, 5 Lead, 1.5mm Pitch; RoHS: N; PinCount: 5; Code_JEDEC: TO-261-AB; Code_IPC: SOT223-5; ComponentLink1Description: LP38692 Datasheet; ComponentLink1URL: http://www.national.com/ds/LP/LP38692.pdf; ComponentLink2Description: LP38692 Web Page; ComponentLink2URL: http://www.national.com/pf/LP/LP38692.html; ComponentLink3Description: MP05A Package Page; ComponentLink3URL: http://www.national.com/packaging/folders/mp05a.html
footprint MP05A_N (SOT223, 5-Leads, Body 6.5x3.5mm, Pitch 1.5mm, Lead Span 7mm, IPC Medium Density)
footprint MP05A_L (SOT223, 5-Leads, Body 6.5x3.5mm, Pitch 1.5mm, Lead Span 7mm, IPC High Density)
footprint MP05A_M (SOT223, 5-Leads, Body 6.5x3.5mm, Pitch 1.5mm, Lead Span 7mm, IPC Low Density)
pins: 1 EN (in), 2 NC, 3 OUT (power), 4 IN (power), 5 GND (power)

## LP38692MPX-3.3
designator U?
1A Low Dropout CMOS Linear Regulators, Stable with Ceramic Output Capacitors, 5-pin SOT-223; PartNumber: LP38692MPX-3.3; Manufacturer: National Semiconductor; PackageTopMarking: XYTT*LJSB; PowerWise: Y; CompType: LDO IC; Published: 1-Mar-2010; DatasheetVersion: May-2005; PackageVersion: revA, Jan-2000; PackageReference: MP05A; Publisher: Altium Limited; PackageDescription: Moldec SOT-223, 6.50 x 3.56 x 1.6mm Body, 5 Lead, 1.5mm Pitch; RoHS: N; PinCount: 5; Code_JEDEC: TO-261-AB; Code_IPC: SOT223-5; ComponentLink1Description: LP38692 Datasheet; ComponentLink1URL: http://www.national.com/ds/LP/LP38692.pdf; ComponentLink2Description: LP38692 Web Page; ComponentLink2URL: http://www.national.com/pf/LP/LP38692.html; ComponentLink3Description: MP05A Package Page; ComponentLink3URL: http://www.national.com/packaging/folders/mp05a.html
footprint MP05A_N (SOT223, 5-Leads, Body 6.5x3.5mm, Pitch 1.5mm, Lead Span 7mm, IPC Medium Density)
footprint MP05A_L (SOT223, 5-Leads, Body 6.5x3.5mm, Pitch 1.5mm, Lead Span 7mm, IPC High Density)
footprint MP05A_M (SOT223, 5-Leads, Body 6.5x3.5mm, Pitch 1.5mm, Lead Span 7mm, IPC Low Density)
pins: 1 EN (in), 2 NC, 3 OUT (power), 4 IN (power), 5 GND (power)

## LP38692MPX-5.0
designator U?
1A Low Dropout CMOS Linear Regulators, Stable with Ceramic Output Capacitors, 5-pin SOT-223; PartNumber: LP38692MPX-5.0; Manufacturer: National Semiconductor; PackageTopMarking: XYTT*LJTB; PowerWise: Y; CompType: LDO IC; Published: 1-Mar-2010; DatasheetVersion: May-2005; PackageVersion: revA, Jan-2000; PackageReference: MP05A; Publisher: Altium Limited; PackageDescription: Moldec SOT-223, 6.50 x 3.56 x 1.6mm Body, 5 Lead, 1.5mm Pitch; RoHS: N; PinCount: 5; Code_JEDEC: TO-261-AB; Code_IPC: SOT223-5; ComponentLink1Description: LP38692 Datasheet; ComponentLink1URL: http://www.national.com/ds/LP/LP38692.pdf; ComponentLink2Description: LP38692 Web Page; ComponentLink2URL: http://www.national.com/pf/LP/LP38692.html; ComponentLink3Description: MP05A Package Page; ComponentLink3URL: http://www.national.com/packaging/folders/mp05a.html
footprint MP05A_N (SOT223, 5-Leads, Body 6.5x3.5mm, Pitch 1.5mm, Lead Span 7mm, IPC Medium Density)
footprint MP05A_L (SOT223, 5-Leads, Body 6.5x3.5mm, Pitch 1.5mm, Lead Span 7mm, IPC High Density)
footprint MP05A_M (SOT223, 5-Leads, Body 6.5x3.5mm, Pitch 1.5mm, Lead Span 7mm, IPC Low Density)
pins: 1 EN (in), 2 NC, 3 OUT (power), 4 IN (power), 5 GND (power)

## LP38692MPX-ADJ
designator U?
1A Low Dropout CMOS Linear Regulators with Adjustable Output Stable with Ceramic Output Capacitors, 5-pin SOT-223; PartNumber: LP38692MPX-ADJ; Manufacturer: National Semiconductor; PackageTopMarking: XYTT*LJNB; PowerWise: Y; CompType: LDO IC; Published: 1-Mar-2010; DatasheetVersion: Jan-2005; PackageVersion: revA, Jan-2000; PackageReference: MP05A; Publisher: Altium Limited; PackageDescription: Moldec SOT-223, 6.50 x 3.56 x 1.6mm Body, 5 Lead, 1.5mm Pitch; RoHS: N; PinCount: 5; Code_JEDEC: TO-261-AB; Code_IPC: SOT223-5; ComponentLink1Description: LP38692 Datasheet; ComponentLink1URL: http://www.national.com/ds/LP/LP38692-ADJ.pdf; ComponentLink2Description: LP38692 Web Page; ComponentLink2URL: http://www.national.com/pf/LP/LP38692.html; ComponentLink3Description: MP05A Package Page; ComponentLink3URL: http://www.national.com/packaging/folders/mp05a.html
footprint MP05A_N (SOT223, 5-Leads, Body 6.5x3.5mm, Pitch 1.5mm, Lead Span 7mm, IPC Medium Density)
footprint MP05A_L (SOT223, 5-Leads, Body 6.5x3.5mm, Pitch 1.5mm, Lead Span 7mm, IPC High Density)
footprint MP05A_M (SOT223, 5-Leads, Body 6.5x3.5mm, Pitch 1.5mm, Lead Span 7mm, IPC Low Density)
pins: 1 EN (in), 2 NC, 3 OUT (power), 4 IN (power), 5 GND (power)

## LP38692SD-1.8
designator U?
1A Low Dropout CMOS Linear Regulators, 6-pin LLP; PartNumber: LP38692SD-1.8; Manufacturer: National Semiconductor; PackageTopMarking: ZXYTT*L123B; PowerWise: Y; CompType: LDO IC; Published: 4-Dec-2008; DatasheetVersion: May-2005; PackageVersion: revA, Jul-2003; PackageReference: SDE06A; Publisher: Altium Limited; PackageDescription: LLP, Plastic, Dual, 3 x 3 x 0.8mm Body, 6 Lead, 0.95mm Pitch, No Pullback; RoHS: N; PinCount: 6; ComponentLink1Description: LP38692 Datasheet; ComponentLink1URL: http://www.national.com/ds/LP/LP38692.pdf; ComponentLink2Description: LP38692 Web Page; ComponentLink2URL: http://www.national.com/pf/LP/LP38692.html; ComponentLink3Description: SDE06A Package Page; ComponentLink3URL: http://www.national.com/packaging/folders/sde06a.html
footprint SDE06A_full (SON, 6-Leads, Body 3x3 mm, Pitch 0.95mm, Full Paste, NSC Recommended)
footprint SDE06A_quad (SON, 6-Leads, Body 3x3 mm, Pitch 0.95mm, Quad Paste, NSC Recommended)
pins: 1 IN (power), 2 GND (power), 3 EN (in), 4 OUT (power), 5 SNS (out), 6 IN (power), 7 DAP (power)

## LP38692SD-1.8/NOPB
designator U?
1A Low Dropout CMOS Linear Regulators, Stable with Ceramic Output Capacitors, 6-pin LLP, Pb-Free; PartNumber: LP38692SD-1.8/NOPB; Manufacturer: National Semiconductor; PackageTopMarking: ZXYTT*L123B; PowerWise: Y; CompType: LDO IC; Published: 1-Mar-2010; DatasheetVersion: May-2005; PackageVersion: revA, Jul-2003; PackageReference: SDE06A; Publisher: Altium Limited; PackageDescription: LLP, Plastic, Dual, 3 x 3 x 0.8mm Body, 6 Lead, 0.95mm Pitch, No Pullback; Supplier 1: Digi-Key; Supplier Part Number 1: LP38692SD-1.8TR-ND; Supplier 2: Digi-Key; Supplier Part Number 2: LP38692SD-1.8CT-ND; Supplier 3: Digi-Key; Supplier Part Number 3: LP38692SD-1.8DKR-ND; RoHS: Y; PinCount: 6; ComponentLink1Description: LP38692 Datasheet; ComponentLink1URL: http://www.national.com/ds/LP/LP38692.pdf; ComponentLink2Description: LP38692 Web Page; ComponentLink2URL: http://www.national.com/pf/LP/LP38692.html; ComponentLink3Description: SDE06A Package Page; ComponentLink3URL: http://www.national.com/packaging/folders/sde06a.html
footprint SDE06A_full (SON, 6-Leads, Body 3x3 mm, Pitch 0.95mm, Full Paste, NSC Recommended)
footprint SDE06A_quad (SON, 6-Leads, Body 3x3 mm, Pitch 0.95mm, Quad Paste, NSC Recommended)
pins: 1 IN (power), 2 GND (power), 3 EN (in), 4 OUT (power), 5 SNS (out), 6 IN (power), 7 DAP (power)

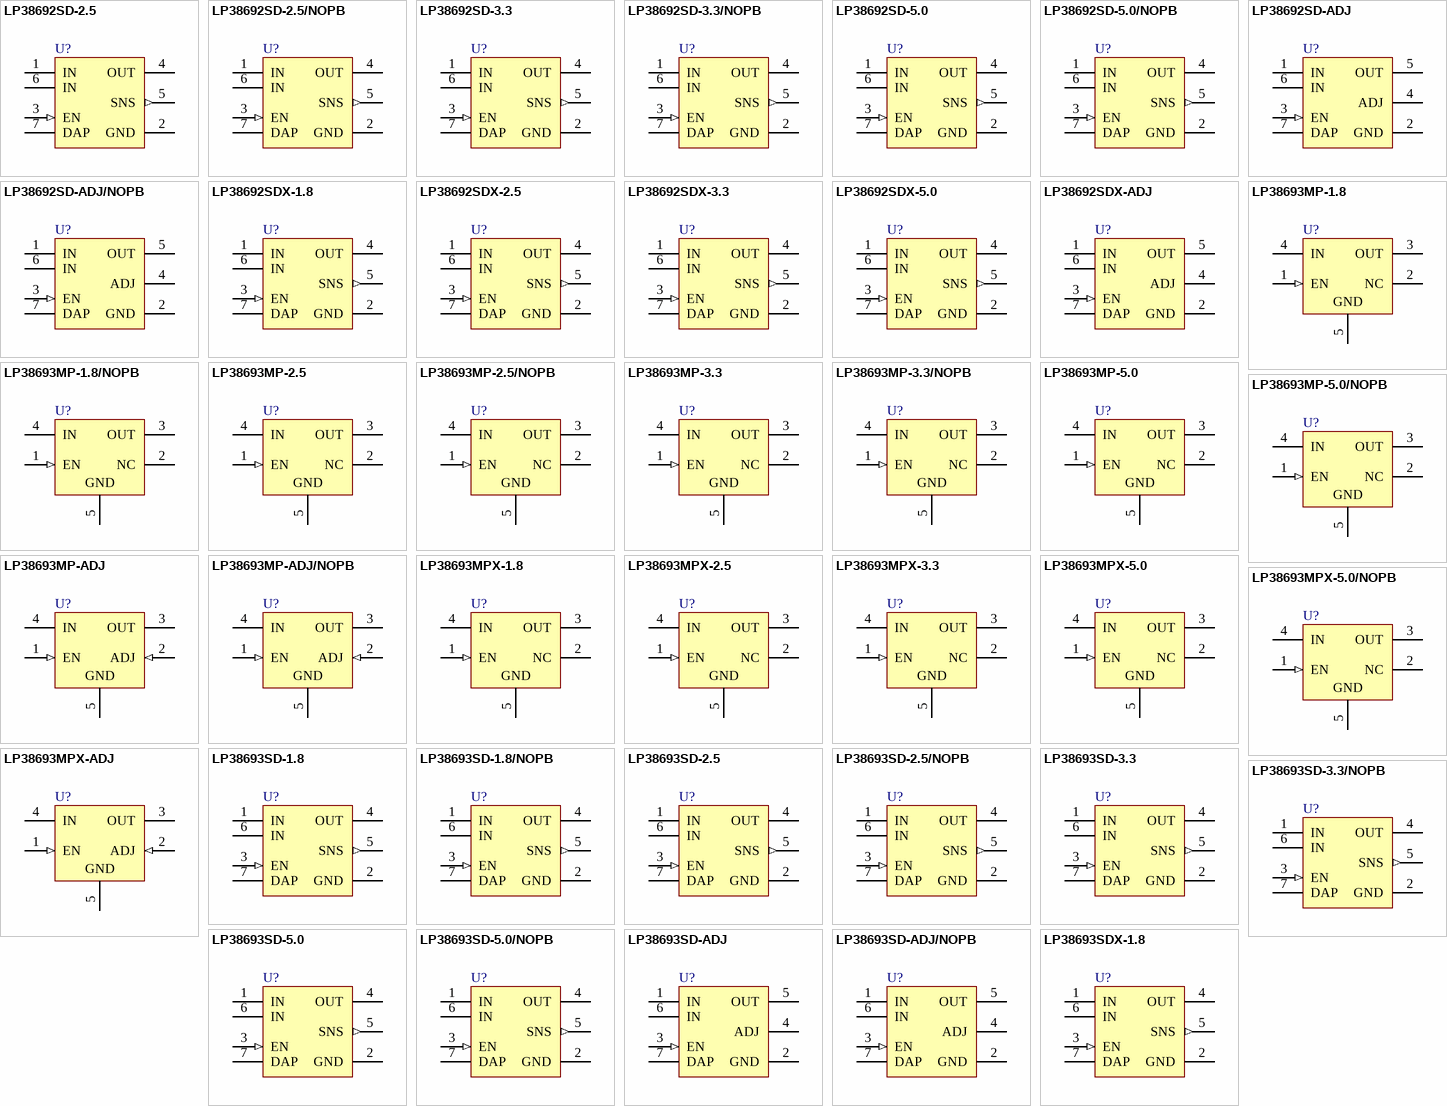
[diagram p61: symbols LP38692SD-2.5 to LP38693SDX-1.8]

## LP38692SD-2.5
designator U?
1A Low Dropout CMOS Linear Regulators, 6-pin LLP; PartNumber: LP38692SD-2.5; Manufacturer: National Semiconductor; PackageTopMarking: ZXYTT*L124B; PowerWise: Y; CompType: LDO IC; Published: 4-Dec-2008; DatasheetVersion: May-2005; PackageVersion: revA, Jul-2003; PackageReference: SDE06A; Publisher: Altium Limited; PackageDescription: LLP, Plastic, Dual, 3 x 3 x 0.8mm Body, 6 Lead, 0.95mm Pitch, No Pullback; RoHS: N; PinCount: 6; ComponentLink1Description: LP38692 Datasheet; ComponentLink1URL: http://www.national.com/ds/LP/LP38692.pdf; ComponentLink2Description: LP38692 Web Page; ComponentLink2URL: http://www.national.com/pf/LP/LP38692.html; ComponentLink3Description: SDE06A Package Page; ComponentLink3URL: http://www.national.com/packaging/folders/sde06a.html
footprint SDE06A_full (SON, 6-Leads, Body 3x3 mm, Pitch 0.95mm, Full Paste, NSC Recommended)
footprint SDE06A_quad (SON, 6-Leads, Body 3x3 mm, Pitch 0.95mm, Quad Paste, NSC Recommended)
pins: 1 IN (power), 2 GND (power), 3 EN (in), 4 OUT (power), 5 SNS (out), 6 IN (power), 7 DAP (power)